# EAGLE library part OPA2350UA/2K5 (library OPA2350)
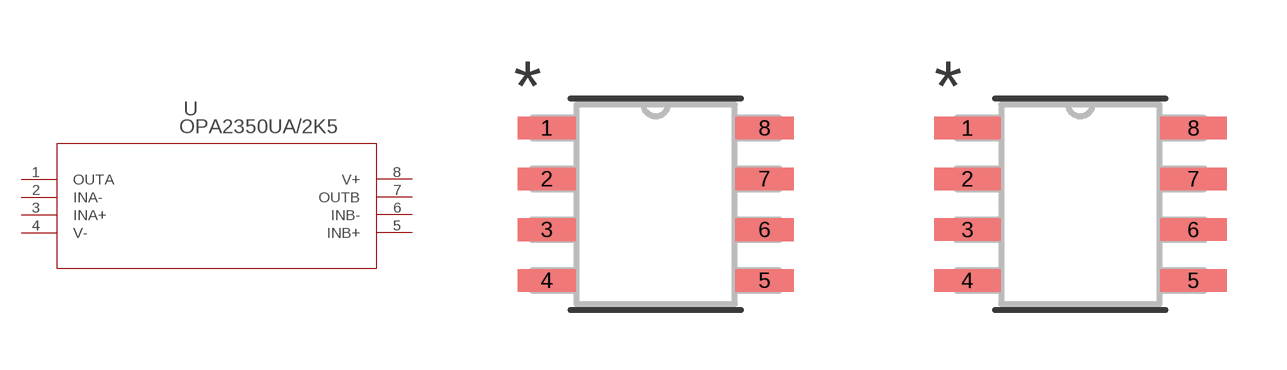
[diagram p0: symbol with the pads of D8_TEX; footprints D8_TEX, D8_TEX-M]

Designator prefix U

## OPA2350UA/2K5 (BUILT_BY: EMA_UL_Team; MANUFACTURER: Texas Instruments; MANUFACTURER_PART_NUMBER: OPA2350UA/2K5; SOURCELIBRARY: TI_2015-1-6; VENDOR: Texas Instruments)  [D8_TEX]
1  OUTA  out
2  INA-  in
3  INA+  in
4  V-  pwr
5  INB+  in
6  INB-  in
7  OUTB  out
8  V+  pwr

## OPA2350UA/2K5D8_TEX-M (BUILT_BY: EMA_UL_Team; MANUFACTURER: Texas Instruments; MANUFACTURER_PART_NUMBER: OPA2350UA/2K5; SOURCELIBRARY: TI_2015-1-6; VENDOR: Texas Instruments)  [D8_TEX-M]
Pads as for D8_TEX

## OPA2350UA/2K5D8_TEX-L (BUILT_BY: EMA_UL_Team; MANUFACTURER: Texas Instruments; MANUFACTURER_PART_NUMBER: OPA2350UA/2K5; SOURCELIBRARY: TI_2015-1-6; VENDOR: Texas Instruments)  [D8_TEX-L]
Pads as for D8_TEX

## Footprint D8_TEX (pad centres in mm)
smd 1.455 x 0.568: 1 -2.721,1.905; 2 -2.721,0.635; 3 -2.721,-0.635; 4 -2.721,-1.905; 5 2.721,-1.905; 6 2.721,-0.635; 7 2.721,0.635; 8 2.721,1.905

## Footprint D8_TEX-M (pad centres in mm)
smd 1.664 x 0.559: 1 -2.826,1.905; 2 -2.826,0.635; 3 -2.826,-0.635; 4 -2.826,-1.905; 5 2.826,-1.905; 6 2.826,-0.635; 7 2.826,0.635; 8 2.826,1.905

## Footprint D8_TEX-L (pad centres in mm)
smd 1.257 x 0.508: 1 -2.623,1.905; 2 -2.623,0.635; 3 -2.623,-0.635; 4 -2.623,-1.905; 5 2.623,-1.905; 6 2.623,-0.635; 7 2.623,0.635; 8 2.623,1.905